# Altium schematic symbol library Zener.SchLib: 2 symbols
Pins are listed as number, name and electrical type; pins without a type are passive.

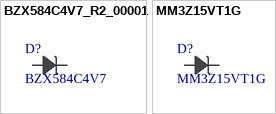
[diagram p0: symbols BZX584C4V7_R2_00001 to MM3Z15VT1G]

## BZX584C4V7_R2_00001
designator D?, comment BZX584C4V7
Z-diode 0, 20W 4, 7V 5% SOD523 DIODE ZENER 200mW 4.7V ±5% SOD523 SMT /; Manufacturer: Pan Jit; Manufacturer Part Number: BZX584C4V7_R1_00001; Max Reverse Leakage Current: 3uA; Designed: Ferdi; Supplier 1: Digikey; RoHS: Yes; Description: Z-diode 0, 20W 4, 7V 5% SOD523; Category: Zener Diodes; Stock 1: 3966; Pricing 1: 1=0,24, 10=0,164, 100=0,08, 500=0,06672, 1000=0,04636, 2000=0,04018 (USD); Mount: Surface Mount; Number of Pins: 2; Min Operating Temperature: -55°C; Max Operating Temperature: 150°C; Zener Voltage: 4.7V; Max Power Dissipation: 200mW; Radiation Hardening: No; RoHS Compliant: Yes; ComponentLink1URL: http://www.panjit.com/upload/product/4/BZX584C2V4_SERIES.pdf?src-supplier=Avnet; ComponentLink1Description: http://www.panjit.com/upload/product/4/BZX584C2V4_SERIES.pdf?src-supplier=Avnet; Supplier Part Number 1: 3757-BZX584C4V7_R1_00001CT-ND
footprint SOD523 (SOD-523)
pins: 1 A, 2 K

## MM3Z15VT1G
designator D?
DIODE ZENER 15V 300MW SOD323 / Zener Diode Single 15V 5% 30Ohm 300mW 2-Pin SOD-323 T/R; Manufacturer: ON Semiconductor; Designed: Ferdi; Supplier 1: Digi-Key; Manufacturer Part Number: MM3Z15VT1G; RoHS: Yes; Category: Zener Diodes; Pricing 1: 1=0,16, 10=0,112, 100=0,0605, 500=0,04756, 1000=0,03303 (USD); ComponentLink1URL: https://datasheet.ciiva.com/894/mm3z2v4t1-d-894601.pdf?src-supplier=Digi-Key; ComponentLink1Description: https://datasheet.ciiva.com/894/mm3z2v4t1-d-894601.pdf?src-supplier=Digi-Key; ComponentLink2URL: https://datasheet.ciiva.com/894/mm3z2v4t1-d-894602.pdf?src-supplier=Digi-Key; ComponentLink2Description: https://datasheet.ciiva.com/894/mm3z2v4t1-d-894602.pdf?src-supplier=Digi-Key; ComponentLink3URL: https://datasheet.ciiva.com/894/mm3z2v4t1-d-894603.pdf?src-supplier=Digi-Key; ComponentLink3Description: https://datasheet.ciiva.com/894/mm3z2v4t1-d-894603.pdf?src-supplier=Digi-Key; ComponentLink4URL: https://datasheet.ciiva.com/10630/mm3z2v4t1-d-10630217.pdf?src-supplier=Avnet; ComponentLink4Description: https://datasheet.ciiva.com/10630/mm3z2v4t1-d-10630217.pdf?src-supplier=Avnet; ComponentLink5URL: https://datasheet.ciiva.com/8026/mm3z2v4t1-d-8026728.pdf?src-supplier=Element14; ComponentLink5Description: https://datasheet.ciiva.com/8026/mm3z2v4t1-d-8026728.pdf?src-supplier=Element14; ComponentLink6URL: https://datasheet.ciiva.com/22626/1876691-22626888.pdf?src-supplier=Element14; ComponentLink6Description: https://datasheet.ciiva.com/22626/1876691-22626888.pdf?src-supplier=Element14; ComponentLink7URL: https://datasheet.ciiva.com/18434/70100601-18434790.pdf?src-supplier=Allied+Electronics; ComponentLink7Description: https://datasheet.ciiva.com/18434/70100601-18434790.pdf?src-supplier=Allied+Electronics; Supplier Part Number 1: MM3Z15VT1GOSCT-ND
footprint SOD-323
pins: 1 A, 2 K